# Altium footprint library ESP32-Pico-Pill.PcbLib: 10 footprints
Each footprint in its own frame and in the unit in brackets; x right, y up, seen from the top. Pads: shape width x height; smd on the part's side, far side on the other; paste and mask are expansions set on the pad; w line width, h text height; cw(c..) or ccw(c..) is an arc to the next point about the centre after c.
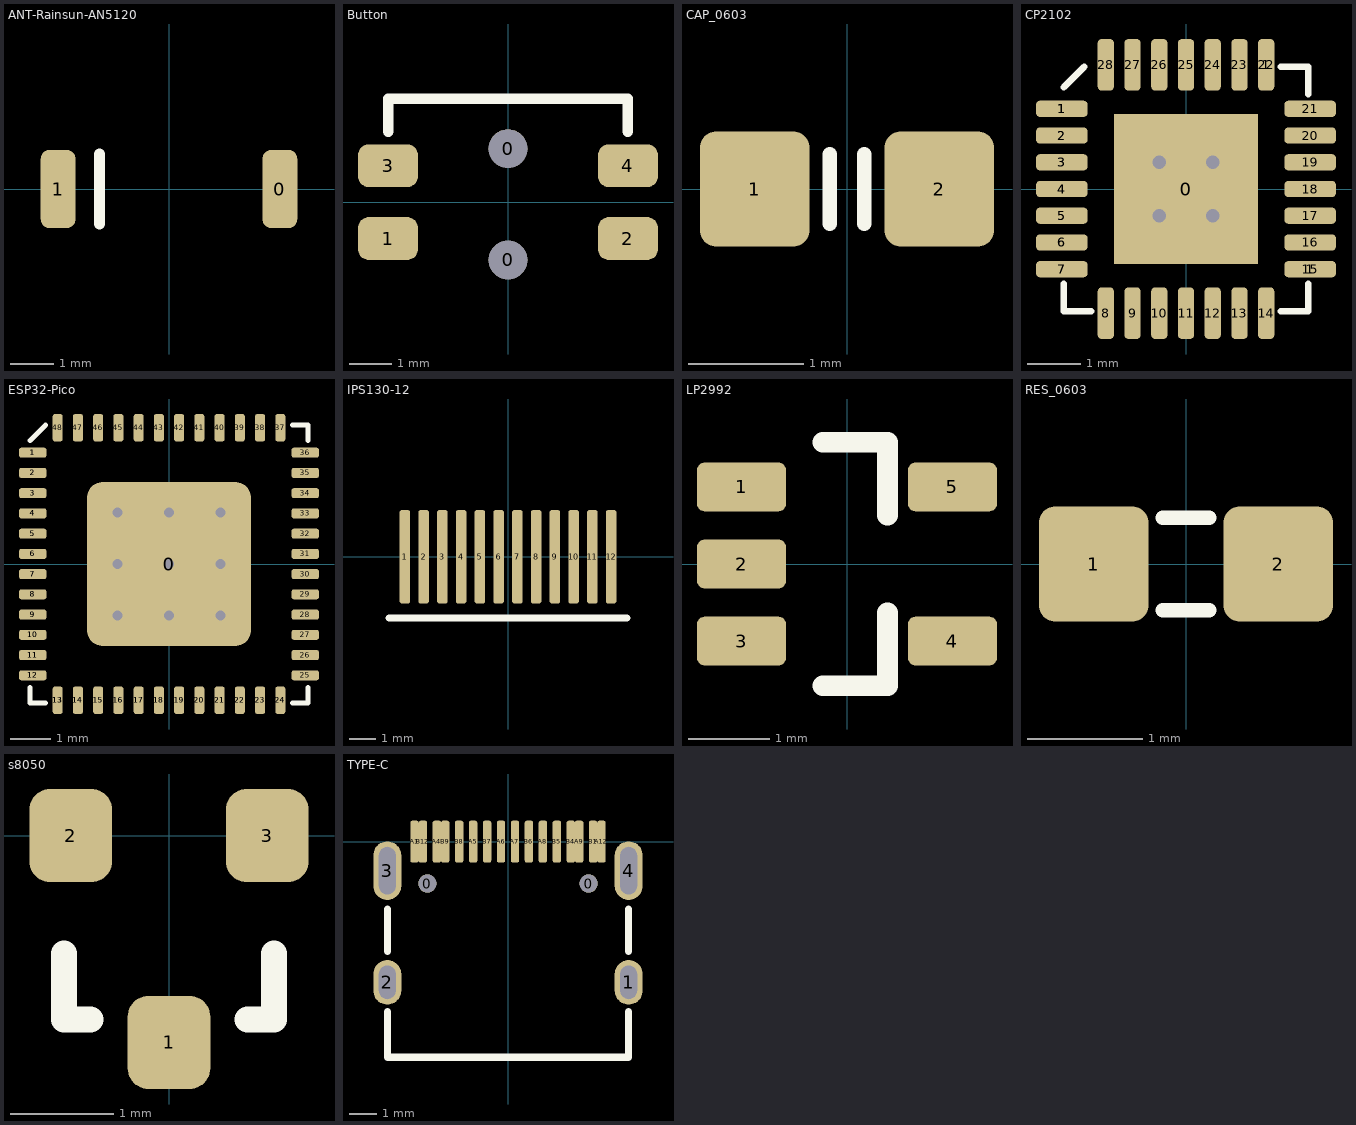
[diagram p0: the footprints below, top view; thin cyan lines are the x and y axes]

## ANT-Rainsun-AN5120 [mm] "RAINSUN"
pads (2):
  rrect50% 0.8x1.8 smd: 0(2.552,0) 1(-2.552,0)
Top Overlay:
  lines w0.254: -1.6,-0.8 -1.6,0.8

## Button [mm] "中乌龟4.8x3.6x4.6mm"
pads (6):
  round 0.9 hole 0.9 mask+0.076: 0(0,-1.35) 0(0,1.25)
  rrect50% 1.4x1 smd mask+0.076: 1(-2.8,-0.85) 2(2.8,-0.85) 3(-2.8,0.85) 4(2.8,0.85)
Top Overlay:
  lines w0.254: -2.794,1.651 -2.794,2.413 2.794,2.413 2.794,1.651

## CAP_0603 [mm] "0603 Capacitor"
pads (2):
  rrect30% 0.95x1 smd mask+0.076: 1(-0.8,0) 2(0.8,0)
Top Overlay:
  lines w0.127: -0.15,-0.3 -0.15,0.3 ; 0.15,-0.3 0.15,0.3

## CP2102 [mil] "QFN28"
pads (40):
  rect 106.3x110.24 smd mask+3: 0(0,0)
  rrect50% 38x12 smd mask+3: 1(-91.5,59.06) 1(-91.5,59.06) 1(-91.5,59.06) 1(-91.5,59.06) 1(91.5,-59.06) 2(-91.5,39.37) 2(-91.5,39.37) 3(-91.5,19.68) 3(-91.5,19.68) 4(-91.5,0) 4(-91.5,0) 5(-91.5,-19.69) 5(-91.5,-19.69) 6(-91.5,-39.37) 6(-91.5,-39.37) 7(-91.5,-59.06) 7(-91.5,-59.06) 15(91.5,-59.06) 16(91.5,-39.37) 17(91.5,-19.68) 18(91.5,0) 19(91.5,19.69) 20(91.5,39.37) 21(91.5,59.06)
  rrect50% 12x38 smd mask+3: 1(59.06,91.5) 8(-59.06,-91.5) 9(-39.37,-91.5) 10(-19.68,-91.5) 11(0,-91.5) 12(19.69,-91.5) 13(39.37,-91.5) 14(59.06,-91.5) 22(59.06,91.5) 23(39.37,91.5) 24(19.68,91.5) 25(0,91.5) 26(-19.69,91.5) 27(-39.37,91.5) 28(-59.06,91.5)
via -19.68,19.68 diameter 20 hole 10
via -19.68,19.68 diameter 20 hole 10
via -19.68,-19.68 diameter 20 hole 10
via 19.68,-19.68 diameter 20 hole 10
via 19.68,19.68 diameter 20 hole 10
Top Overlay:
  lines w5: -90,-70 -90,-90 -70,-90 ; -90,75 -75,90 ; 70,-90 90,-90 90,-70 ; 70,90 90,90 90,70

## ESP32-Pico [mm] "QFN-48_7X7"
pads (77):
  rrect20% 4.06x4.06 smd mask+0.076: 0(0,0)
  rrect50% 0.68x0.25 smd mask+0.076: 1(-3.365,2.75) 1(-3.365,2.75) 1(-3.365,2.75) 1(-3.365,2.75) 2(-3.365,2.25) 2(-3.365,2.25) 3(-3.365,1.75) 3(-3.365,1.75) 4(-3.365,1.25) 4(-3.365,1.25) 5(-3.365,0.75) 5(-3.365,0.75) 6(-3.365,0.25) 6(-3.365,0.25) 7(-3.365,-0.25) 7(-3.365,-0.25) 8(-3.365,-0.75) 8(-3.365,-0.75) 9(-3.365,-1.25) 9(-3.365,-1.25) 10(-3.365,-1.75) 10(-3.365,-1.75) 11(-3.365,-2.25) 11(-3.365,-2.25) 12(-3.365,-2.75) 12(-3.365,-2.75) 25(3.365,-2.75) 26(3.365,-2.25) 27(3.365,-1.75) 28(3.365,-1.25) 29(3.365,-0.75) 30(3.365,-0.25) 31(3.365,0.25) 32(3.365,0.75) 33(3.365,1.25) 34(3.365,1.75) 35(3.365,2.25) 36(3.365,2.75)
  rrect50% 0.25x0.68 smd mask+0.076: 13(-2.75,-3.365) 13(-2.75,-3.365) 13(-2.75,-3.365) 13(-2.75,-3.365) 14(-2.25,-3.365) 14(-2.25,-3.365) 15(-1.75,-3.365) 15(-1.75,-3.365) 16(-1.25,-3.365) 16(-1.25,-3.365) 17(-0.75,-3.365) 17(-0.75,-3.365) 18(-0.25,-3.365) 18(-0.25,-3.365) 19(0.25,-3.365) 19(0.25,-3.365) 20(0.75,-3.365) 20(0.75,-3.365) 21(1.25,-3.365) 21(1.25,-3.365) 22(1.75,-3.365) 22(1.75,-3.365) 23(2.25,-3.365) 23(2.25,-3.365) 24(2.75,-3.365) 24(2.75,-3.365) 37(2.75,3.365) 38(2.25,3.365) 39(1.75,3.365) 40(1.25,3.365) 41(0.75,3.365) 42(0.25,3.365) 43(-0.25,3.365) 44(-0.75,3.365) 45(-1.25,3.365) 46(-1.75,3.365) 47(-2.25,3.365) 48(-2.75,3.365)
via 0,0 diameter 0.508 hole 0.254
via 1.27,0 diameter 0.508 hole 0.254
via -1.27,0 diameter 0.508 hole 0.254
via -1.27,1.27 diameter 0.508 hole 0.254
via 1.27,1.27 diameter 0.508 hole 0.254
via 0,1.27 diameter 0.508 hole 0.254
via -1.27,-1.27 diameter 0.508 hole 0.254
via 1.27,-1.27 diameter 0.508 hole 0.254
via 0,-1.27 diameter 0.508 hole 0.254
Top Overlay:
  lines w0.127: -3.429,-3.048 -3.429,-3.429 -3.048,-3.429 ; -3.429,3.048 -3.048,3.429 ; 3.048,-3.429 3.429,-3.429 3.429,-3.048 ; 3.048,3.429 3.429,3.429 3.429,3.048

## IPS130-12 [mm] "IPS LCD屏焊盘"
pads (12):
  rrect50% 0.4x3.5 smd mask+0.076: 1(-3.85,0) 2(-3.15,0) 3(-2.45,0) 4(-1.75,0) 5(-1.05,0) 6(-0.35,0) 7(0.35,0) 8(1.05,0) 9(1.75,0) 10(2.45,0) 11(3.15,0) 12(3.85,0)
Top Overlay:
  lines w0.254: -4.445,-2.286 4.445,-2.286

## LP2992 [mm] "LP2992_3.3v"
pads (5):
  rrect30% 1.1x0.6 smd mask+0.07: 1(-1.3,0.95) 2(-1.3,0) 3(-1.3,-0.95) 4(1.3,-0.95) 5(1.3,0.95)
Top Overlay:
  lines w0.254: -0.3,-1.5 0.5,-1.5 0.5,-0.6 ; -0.3,1.5 0.5,1.5 0.5,0.6

## RES_0603 [mm] "0603 Resistor"
pads (2):
  rrect30% 0.95x1 smd mask+0.076: 1(-0.8,0) 2(0.8,0)
Top Overlay:
  lines w0.127: -0.2,-0.4 0.2,-0.4 ; -0.2,0.4 0.2,0.4

## s8050 [mm] "SOT23"
pads (3):
  rrect50% 0.8x0.9 smd: 1(0,-2) 2(-0.95,0) 3(0.95,0)
Top Overlay:
  lines w0.254: -1.016,-1.143 -1.016,-1.778 -0.762,-1.778 ; 0.762,-1.778 1.016,-1.778 1.016,-1.143

## TYPE-C [mm] "TYPE-C 16P"
pads (22):
  round 0.65 hole 0.65 mask+0.076: 0(-2.89,-1.5) 0(2.89,-1.5)
  oval 1x1.6 hole 1.2 slot 0.6 at 0 deg mask+0.076: 1(4.325,-5.04) 2(-4.325,-5.04)
  oval 1x2.1 hole 1.7 slot 0.6 at 0 deg mask+0.076: 3(-4.325,-1.04) 4(4.325,-1.04)
  rrect50% 0.3x1.5 smd mask+0.076: A1(-3.35,0) A4(-2.55,0) A5(-1.25,0) A6(-0.25,0) A7(0.25,0) A8(1.25,0) A9(2.55,0) A12(3.35,0) B1(3.05,0) B4(2.25,0) B5(1.75,0) B6(0.75,0) B7(-0.75,0) B8(-1.75,0) B9(-2.25,0) B12(-3.05,0)
Top Overlay:
  lines w0.254: -4.318,-6.096 -4.318,-7.727 4.318,-7.727 4.318,-6.096 ; -4.318,-3.937 -4.318,-2.413 ; 4.318,-3.937 4.318,-3.556 4.318,-2.794 4.318,-2.413